# EAGLE library part RHD2164_BGA (library hs-64-spi)
Intan Technologies RHD2164 chip
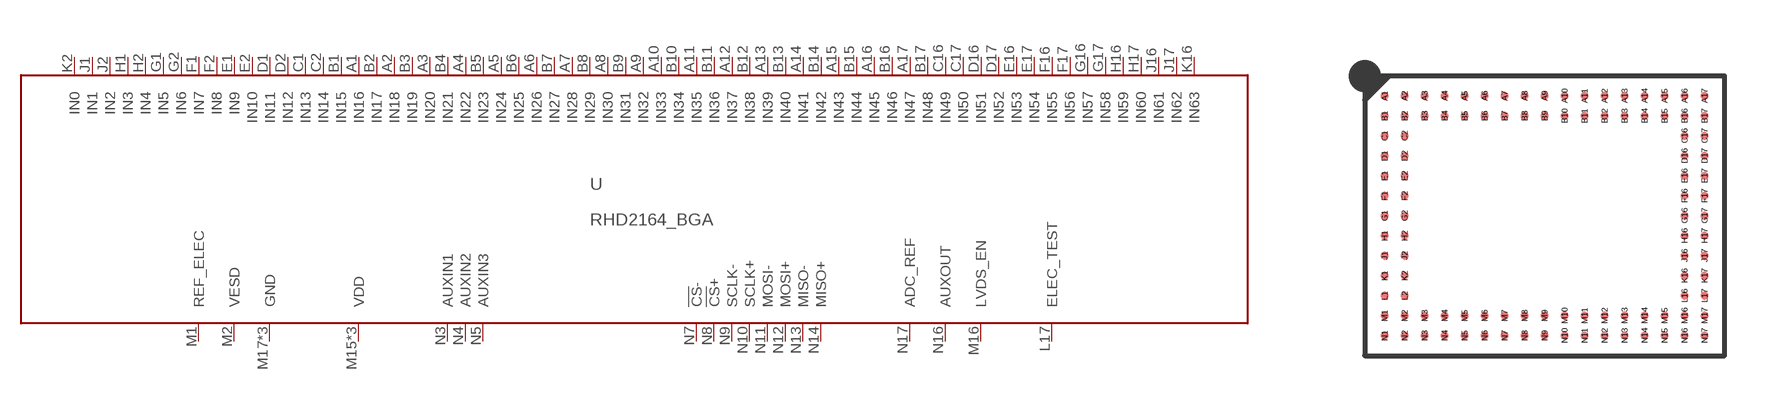
[diagram p3: symbol with the pads of BGA104_0.5MM; footprint BGA104_0.5MM]

Designator prefix U

## RHD2164_BGA_BGA  [BGA104_0.5MM]
A1  IN16  in
A2  IN18  in
A3  IN20  in
A4  IN22  in
A5  IN24  in
A6  IN26  in
A7  IN28  in
A8  IN30  in
A9  IN32  in
A10  IN33  in
A11  IN35  in
A12  IN37  in
A13  IN39  in
A14  IN41  in
A15  IN43  in
A16  IN45  in
A17  IN47  in
B1  IN15  in
B2  IN17  in
B3  IN19  in
B4  IN21  in
B5  IN23  in
B6  IN25  in
B7  IN27  in
B8  IN29  in
B9  IN31  in
B10  IN34  in
B11  IN36  in
B12  IN38  in
B13  IN40  in
B14  IN42  in
B15  IN44  in
B16  IN46  in
B17  IN48  in
C1  IN13  in
C2  IN14  in
C16  IN49  in
C17  IN50  in
D1  IN11  in
D2  IN12  in
D16  IN51  in
D17  IN52  in
E1  IN9  in
E2  IN10  in
E16  IN53  in
E17  IN54  in
F1  IN7  in
F2  IN8  in
F16  IN55  in
F17  IN56  in
G1  IN5  in
G2  IN6  in
G16  IN57  in
G17  IN58  in
H1  IN3  in
H2  IN4  in
H16  IN59  in
H17  IN60  in
J1  IN1  in
J2  IN2  in
J16  IN61  in
J17  IN62  in
K2  IN0  in
K16  IN63  in
L17  ELEC_TEST  in
M1  REF_ELEC  in
M2  VESD  pwr
M15  VDD  pwr
M16  LVDS_EN  in
M17  GND  pwr
N1  GND  pwr
N2  VDD  pwr
N3  AUXIN1  in
N4  AUXIN2  in
N5  AUXIN3  in
N6  GND  pwr
N7  !CS!-  in
N8  !CS!+  in
N9  SCLK-  in
N10  SCLK+  in
N11  MOSI-  in
N12  MOSI+  in
N13  MISO-  out
N14  MISO+  out
N15  VDD  pwr
N16  AUXOUT  hiz
N17  ADC_REF  pas

## Footprint BGA104_0.5MM (pad centres in mm)
smd 0.2 x 0.2: A1 -4,3; A2 -3.5,3; A3 -3,3; A4 -2.5,3; A5 -2,3; A6 -1.5,3; A7 -1,3; A8 -0.5,3; A9 0,3; A10 0.5,3; A11 1,3; A12 1.5,3; A13 2,3; A14 2.5,3; A15 3,3; A16 3.5,3; A17 4,3; B1 -4,2.5; B2 -3.5,2.5; B3 -3,2.5; B4 -2.5,2.5; B5 -2,2.5; B6 -1.5,2.5; B7 -1,2.5; B8 -0.5,2.5; B9 0,2.5; B10 0.5,2.5; B11 1,2.5; B12 1.5,2.5; B13 2,2.5; B14 2.5,2.5; B15 3,2.5; B16 3.5,2.5; B17 4,2.5; C1 -4,2; C2 -3.5,2; C16 3.5,2; C17 4,2; D1 -4,1.5; D2 -3.5,1.5; D16 3.5,1.5; D17 4,1.5; E1 -4,1; E2 -3.5,1; E16 3.5,1; E17 4,1; F1 -4,0.5; F2 -3.5,0.5; F16 3.5,0.5; F17 4,0.5; G1 -4,0; G2 -3.5,0; G16 3.5,0; G17 4,0; H1 -4,-0.5; H2 -3.5,-0.5; H16 3.5,-0.5; H17 4,-0.5; J1 -4,-1; J2 -3.5,-1; J16 3.5,-1; J17 4,-1; K1 -4,-1.5; K2 -3.5,-1.5; K16 3.5,-1.5; K17 4,-1.5; L1 -4,-2; L2 -3.5,-2; L16 3.5,-2; L17 4,-2; M1 -4,-2.5; M2 -3.5,-2.5; M3 -3,-2.5; M4 -2.5,-2.5; M5 -2,-2.5; M6 -1.5,-2.5; M7 -1,-2.5; M8 -0.5,-2.5; M9 0,-2.5; M10 0.5,-2.5; M11 1,-2.5; M12 1.5,-2.5; M13 2,-2.5; M14 2.5,-2.5; M15 3,-2.5; M16 3.5,-2.5; M17 4,-2.5; N1 -4,-3; N2 -3.5,-3; N3 -3,-3; N4 -2.5,-3; N5 -2,-3; N6 -1.5,-3; N7 -1,-3; N8 -0.5,-3; N9 0,-3; N10 0.5,-3; N11 1,-3; N12 1.5,-3; N13 2,-3; N14 2.5,-3; N15 3,-3; N16 3.5,-3; N17 4,-3